# Altium footprint library SRU5028.PcbLib: 1 footprints
Each footprint in its own frame and in the unit in brackets; x right, y up, seen from the top. Pads: shape width x height; smd on the part's side, far side on the other; paste and mask are expansions set on the pad; w line width, h text height; cw(c..) or ccw(c..) is an arc to the next point about the centre after c.
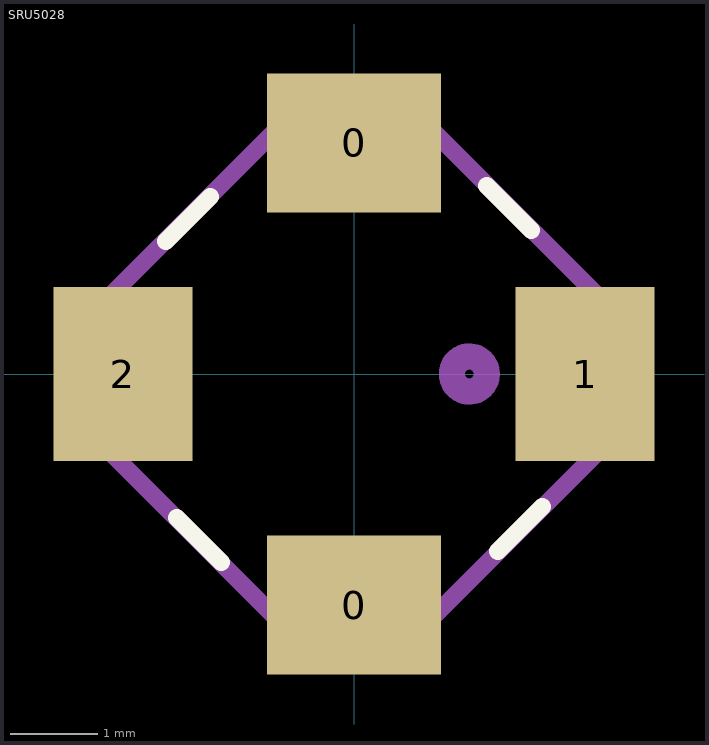
[diagram p0: the footprint, top view; thin cyan lines are the x and y axes]

## SRU5028 [mm]
height 3
pads (4):
  rect 2x1.6 smd: 0(0,-2.65) 0(0,2.65)
  rect 1.6x2 smd: 1(2.65,0) 2(-2.65,0)
Top Overlay:
  lines w0.2: -2.159,1.524 -1.651,2.032 ; -2.032,-1.651 -1.524,-2.159 ; 1.524,2.159 2.032,1.651 ; 1.651,-2.032 2.159,-1.524
Mechanical 13:
  circle w0.3: c1.323,0 r0.201
  lines w0.2: -2.794,-0.9 -0.9,-2.794 0.9,-2.794 2.794,-0.9 2.794,0.9 0.9,2.794 -0.9,2.794 -2.794,0.9 -2.794,-0.9
  text ".Designator" at -1.143,-1.016 h2.5
3D body: height 2.8, standoff 0, extent -2.597,-2.576 2.603,2.624
3D body: height 2.81, standoff 2.8, extent 2.028,-0.258 2.545,0.259